# Altium footprint library ESP32-S3-WROOM.PcbLib: 1 footprints
Each footprint in its own frame and in the unit in brackets; x right, y up, seen from the top. Pads: shape width x height; smd on the part's side, far side on the other; paste and mask are expansions set on the pad; w line width, h text height; cw(c..) or ccw(c..) is an arc to the next point about the centre after c.
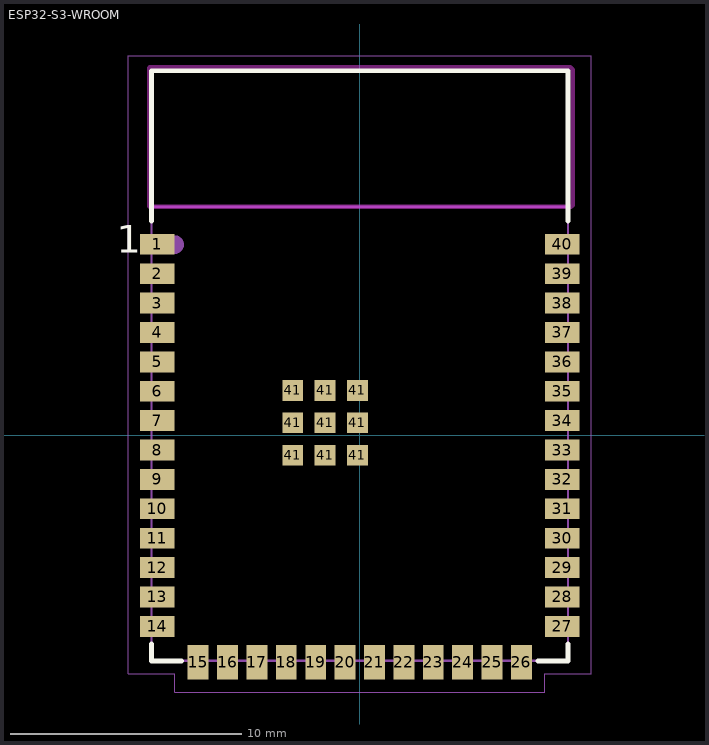
[diagram p0: the footprint, top view; thin cyan lines are the x and y axes]

## ESP32-S3-WROOM [mm] "ESP32-S3-WROOM"
height 3.1
pads (49):
  rect 1.5x0.9 smd: 1(-8.75,8.255) 2(-8.75,6.985) 3(-8.75,5.715) 4(-8.75,4.445) 5(-8.75,3.175) 6(-8.75,1.905) 7(-8.75,0.635) 8(-8.75,-0.635) 9(-8.75,-1.905) 10(-8.75,-3.175) 11(-8.75,-4.445) 12(-8.75,-5.715) 13(-8.75,-6.985) 14(-8.75,-8.255) 27(8.75,-8.255) 28(8.75,-6.985) 29(8.75,-5.715) 30(8.75,-4.445) 31(8.75,-3.175) 32(8.75,-1.905) 33(8.75,-0.635) 34(8.75,0.635) 35(8.75,1.905) 36(8.75,3.175) 37(8.75,4.445) 38(8.75,5.715) 39(8.75,6.985) 40(8.75,8.255)
  rect 0.9x1.5 smd: 15(-6.985,-9.805) 16(-5.715,-9.805) 17(-4.445,-9.805) 18(-3.175,-9.805) 19(-1.905,-9.805) 20(-0.635,-9.805) 21(0.635,-9.805) 22(1.905,-9.805) 23(3.175,-9.805) 24(4.445,-9.805) 25(5.715,-9.805) 26(6.985,-9.805)
  rect 0.9x0.9 smd: 41(-2.9,-0.86) 41(-2.9,0.54) 41(-2.9,1.94) 41(-1.5,-0.86) 41(-1.5,0.54) 41(-1.5,1.94) 41(-0.1,-0.86) 41(-0.1,0.54) 41(-0.1,1.94)
Top Overlay:
  lines w0.2: -9,-9 -9,-9.75 -7.7,-9.75 ; -9,9.25 -9,15.75 9,15.75 9,9.25 ; 7.7,-9.75 9,-9.75 9,-9
  text "1" at -10.5,7.9 h1.2
Keep-Out Layer:
  lines w0.2: -9.1,9.9 -9.1,15.875 -9.075,15.9 9.1,15.9 9.2,15.8 9.2,9.95 9.125,9.875 -9.075,9.875 -9.1,9.9
Top Assembly:
  circle w0.4: c-8,8.241 r0.2
  lines w0.1: -9,9.875 9,9.875 ; -9,-9.743 -9,15.75 9,15.75 9,-9.743 -9,-9.743
  text ".Designator" at -7.498,-0.5 h1.5
Top Courtyard:
  lines w0.05: -10,-10.3 -10,16.4 10,16.4 10,-10.3 8,-10.3 8,-11.1 -8,-11.1 -8,-10.3 -10,-10.3
3D body "ESP32-S3-WROOM.step": height 3.11, standoff -0.05, extent -9.01,-9.785 9.01,15.725